# Altium footprint library 74HC.PcbLib: 1 footprints
Each footprint in its own frame and in the unit in brackets; x right, y up, seen from the top. Pads: shape width x height; smd on the part's side, far side on the other; paste and mask are expansions set on the pad; w line width, h text height; cw(c..) or ccw(c..) is an arc to the next point about the centre after c.
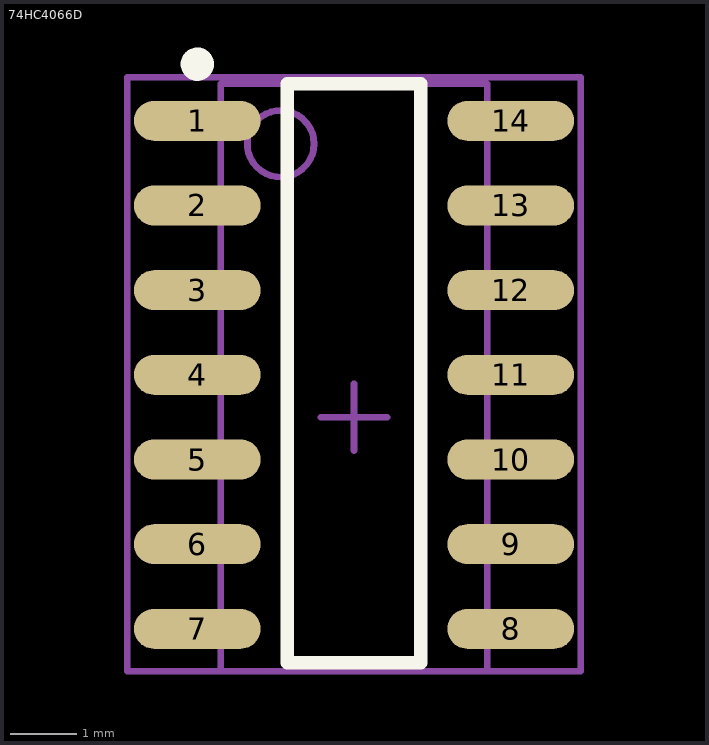
[diagram p0: the footprint, top view; thin cyan lines are the x and y axes]

## 74HC4066D [mm]
pads (14):
  oval 1.9x0.6 smd: 1(-1247.458,-1249.426) 2(-1247.458,-1250.696) 3(-1247.458,-1251.966) 4(-1247.458,-1253.236) 5(-1247.458,-1254.506) 6(-1247.458,-1255.776) 7(-1247.458,-1257.046) 8(-1242.758,-1257.046) 9(-1242.758,-1255.776) 10(-1242.758,-1254.506) 11(-1242.758,-1253.236) 12(-1242.758,-1251.966) 13(-1242.758,-1250.696) 14(-1242.758,-1249.426)
Top Overlay:
  circle w0.25: c-1247.458,-1248.576 r0.125
  lines w0.2: -1246.108,-1257.554 -1246.108,-1248.871 -1244.108,-1248.871 -1244.108,-1257.554 -1246.108,-1257.554
Mechanical 13:
  circle w0.1: c-1246.208,-1249.771 r0.5
  lines w0.1: -1247.108,-1257.681 -1243.108,-1257.681 -1243.108,-1248.871 -1247.108,-1248.871 -1247.108,-1257.681
Mechanical 15:
  lines w0.1: -1245.608,-1253.871 -1244.608,-1253.871 ; -1245.108,-1254.371 -1245.108,-1253.371 ; -1248.508,-1257.681 -1241.708,-1257.681 -1241.708,-1248.771 -1248.508,-1248.771 -1248.508,-1257.681
3D body: height 1.75, standoff 0, extent -1247.108,-1257.681 -1243.108,-1248.871